# EAGLE library part 7SEGMENT-1DIGIT (library GW-devices)
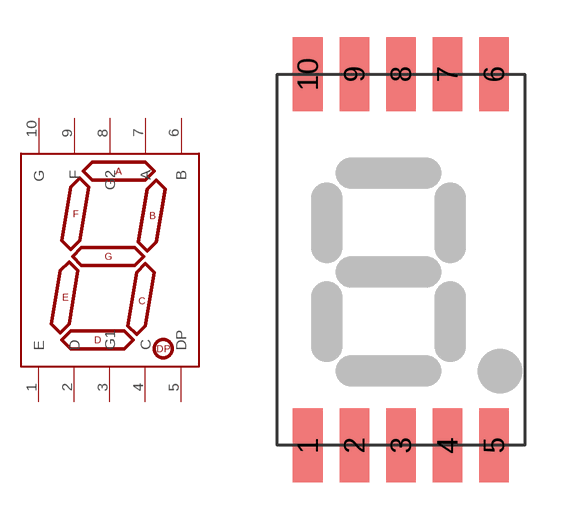
[diagram p54: symbol with the pads of 7SEGMENT-1DIG-.40-SMD; footprint 7SEGMENT-1DIG-.40-SMD]

Designator prefix -

## 7SEGMENT-1DIGITSMD  [7SEGMENT-1DIG-.40-SMD]
1  E
2  D
3  G1
4  C
5  DP
6  B
7  A
8  G2
9  F
10  G

## Footprint 7SEGMENT-1DIG-.40-SMD (pad centres in mm)
smd 1.2 x 3: 1 -3.76,-7.5; 2 -1.88,-7.5; 3 0,-7.5; 4 1.88,-7.5; 5 3.76,-7.5; 6 3.76,7.5; 7 1.88,7.5; 8 0,7.5; 9 -1.88,7.5; 10 -3.76,7.5